# Altium footprint library SOT89-150P420X160-5.PcbLib: 1 footprints
Each footprint in its own frame and in the unit in brackets; x right, y up, seen from the top. Pads: shape width x height; smd on the part's side, far side on the other; paste and mask are expansions set on the pad; w line width, h text height; cw(c..) or ccw(c..) is an arc to the next point about the centre after c.
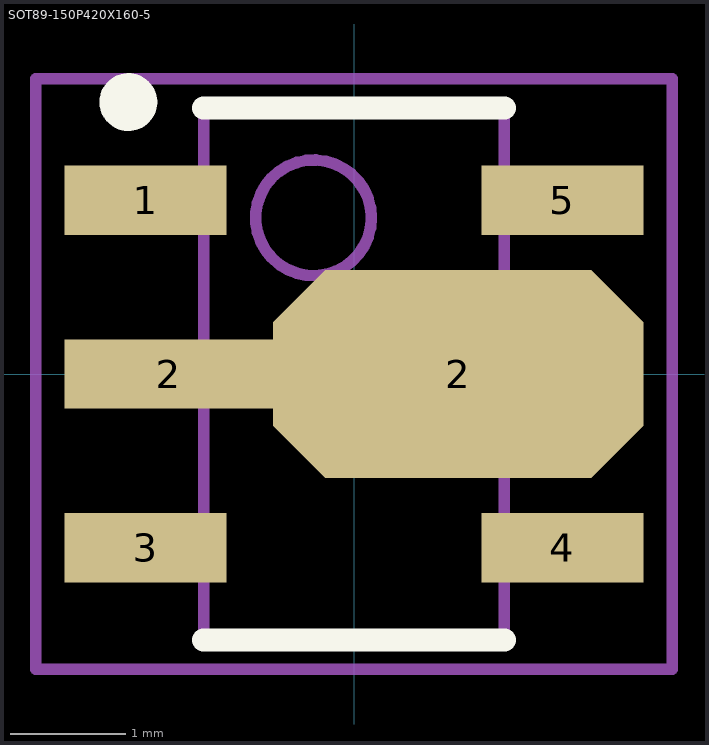
[diagram p0: the footprint, top view; thin cyan lines are the x and y axes]

## SOT89-150P420X160-5 [mm] "SOT89, 5-Leads, Body 4.5x2.4 mm, Pitch 1.5mm, Lead Span 4.2mm, IPC Medium Density"
height 1.6
pads (6):
  rect 1.4x0.6 smd: 1(-1.8,1.5) 3(-1.8,-1.5) 4(1.8,-1.5) 5(1.8,1.5)
  rect 1.8x0.6 smd: 2(-1.6,0)
  oct 3.2x1.8 smd: 2(0.9,0)
Top Overlay:
  circle w0.25: c-1.95,2.35 r0.125
  lines w0.2: -1.3,-2.3 1.3,-2.3 ; -1.3,2.3 1.3,2.3
Mechanical 13:
  circle w0.1: c-0.35,1.35 r0.5
  lines w0.1: -1.3,-2.3 1.3,-2.3 1.3,2.3 -1.3,2.3 -1.3,-2.3
Mechanical 15:
  lines w0.1: -0.5,0 0.5,0 ; 0,-0.5 0,0.5 ; -2.75,-2.55 2.75,-2.55 2.75,2.55 -2.75,2.55 -2.75,-2.55
3D body: height 1.6, standoff 0, extent -1.3,-2.3 1.3,2.3